# Altium footprint library DIP_Resistors.PcbLib: 6 footprints
Each footprint in its own frame and in the unit in brackets; x right, y up, seen from the top. Pads: shape width x height; smd on the part's side, far side on the other; paste and mask are expansions set on the pad; w line width, h text height; cw(c..) or ccw(c..) is an arc to the next point about the centre after c.
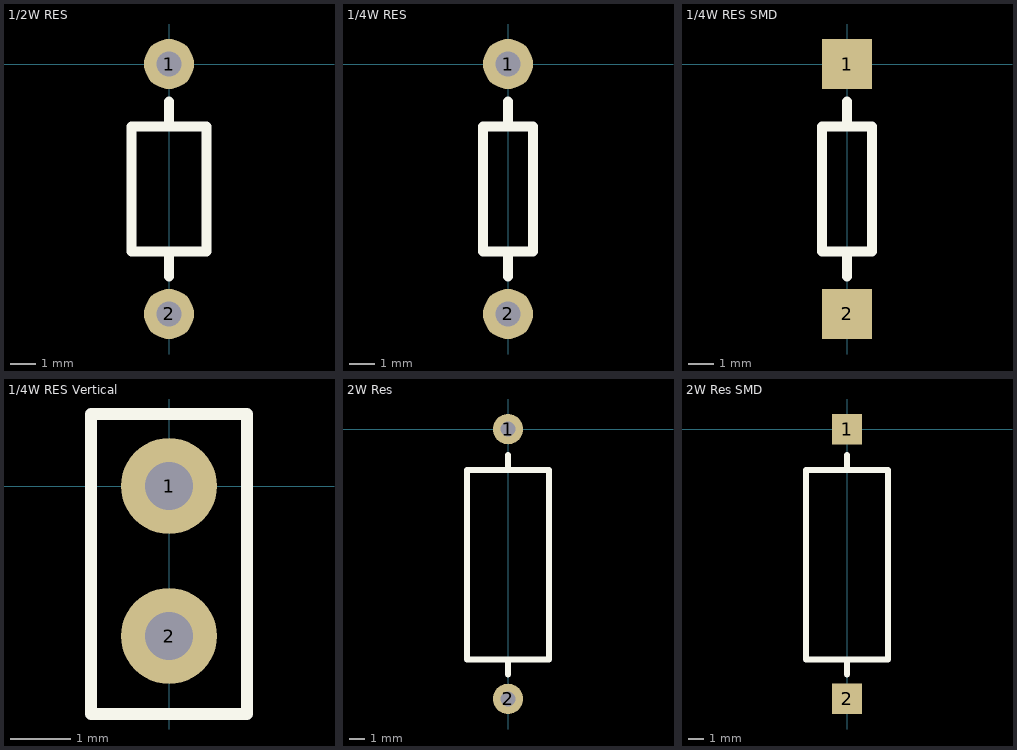
[diagram p0: the footprints below, top view; thin cyan lines are the x and y axes]

## 1/2W RES [mm]
pads (2):
  round 2 hole 1: 1(0,0) 2(0,-10)
Top Overlay:
  lines w0.4: 0,-8.5 0,-7.5 ; 0,-2.5 0,-1.5 ; -1.5,-7.5 -1.5,-2.5 1.5,-2.5 1.5,-7.5 -1.5,-7.5
3D body: height 3.32, standoff -2, extent -1.65,-10.43 1.65,0.43

## 1/4W RES [mm]
pads (2):
  round 2 hole 1: 1(0,0) 2(0,-10)
Top Overlay:
  lines w0.4: 0,-8.5 0,-7.5 ; 0,-2.5 0,-1.5 ; -1,-7.5 1,-7.5 1,-2.5 -1,-2.5 -1,-7.5
3D body: height 2.41, standoff -2, extent -1.2,-10.38 1.2,0.38

## 1/4W RES SMD [mm]
pads (2):
  rect 2x2 smd: 1(0,0) 2(0,-10)
Top Overlay:
  lines w0.4: 0,-8.5 0,-7.5 ; 0,-2.5 0,-1.5 ; -1,-7.5 1,-7.5 1,-2.5 -1,-2.5 -1,-7.5
3D body: height 4.41, standoff 0, extent -1.2,-10.38 1.2,0.38

## 1/4W RES Vertical [mm]
pads (2):
  round 1.6 hole 0.8: 1(0,0) 2(0,-2.5)
Top Overlay:
  lines w0.2: -1.3,-3.8 -1.3,1.2 1.3,1.2 1.3,-3.8 -1.3,-3.8
3D body: height 10.83, standoff -1.47, extent -1.15,-3.65 1.15,0.3

## 2W Res [mm]
pads (2):
  round 2 hole 1: 1(0,0) 2(0,-17.8)
Top Overlay:
  lines w0.4: 0,-16.2 0,-15.2 ; 0,-1.7 0,-2.7 ; 0,-2.7 2.7,-2.7 2.7,-15.2 -2.7,-15.2 -2.7,-2.7 0,-2.7
3D body: height 5.27, standoff -2, extent -2.75,-18.195 2.75,0.395

## 2W Res SMD [mm]
pads (2):
  rect 2x2 smd: 1(0,0) 2(0,-17.8)
Top Overlay:
  lines w0.4: 0,-16.2 0,-15.2 ; 0,-1.7 0,-2.7 ; 0,-2.7 -2.7,-2.7 -2.7,-15.2 2.7,-15.2 2.7,-2.7 0,-2.7
3D body: height 7.27, standoff 0, extent -2.75,-18.195 2.75,0.395